# Altium schematic symbol library RC0603FR-07150RL.SchLib: 1 symbol
Pins are listed as number, name and electrical type; pins without a type are passive.

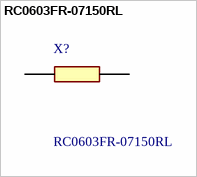
[diagram p0: symbol RC0603FR-07150RL]

## RC0603FR-07150RL
designator X?
YAGEO (PHYCOMP) - RC0603FR-07150RL - RES, THICK FILM, 150R, 1%, 0.1W, 0603; Manufacturer_Name: Yageo Group; Geometry.Height: 0.55mm; Mouser Part Number: 603-RC0603FR-07150RL; Mouser Price/Stock: https://www.mouser.co.uk/ProductDetail/YAGEO/RC0603FR-07150RL?qs=NiiRlmYYPUWAQinXJi92kg%3D%3D; Manufacturer_Part_Number: RC0603FR-07150RL; Datasheet Link: http://www.yageo.com/documents/recent/PYu-RC0603_51_RoHS_L_v5.pdf
footprint RESC1608X55N
pins: 1, 2